# Altium footprint library PCB - CONNECTOR - HEADER - MALE 1X22.PcbLib: 1 footprints
Each footprint in its own frame and in the unit in brackets; x right, y up, seen from the top. Pads: shape width x height; smd on the part's side, far side on the other; paste and mask are expansions set on the pad; w line width, h text height; cw(c..) or ccw(c..) is an arc to the next point about the centre after c.
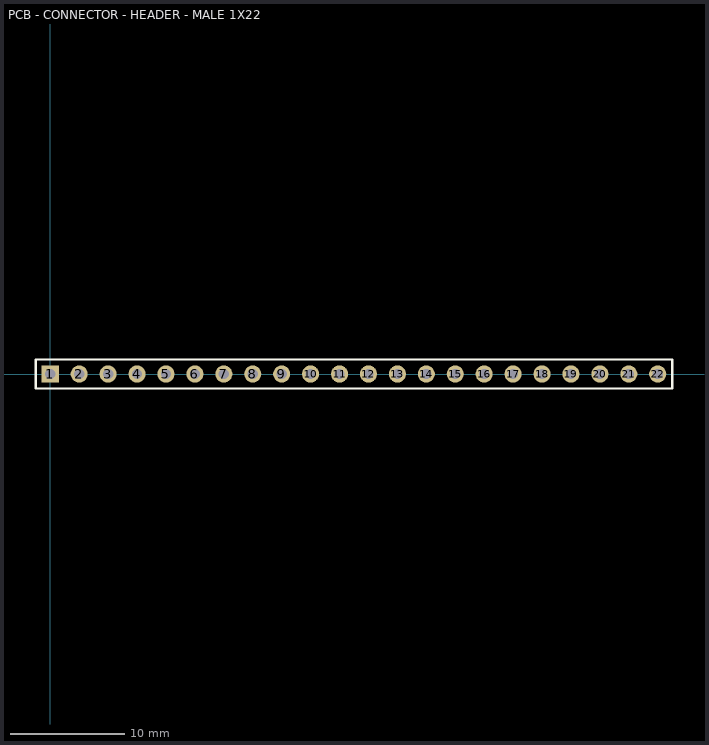
[diagram p0: the footprint, top view; thin cyan lines are the x and y axes]

## PCB - CONNECTOR - HEADER - MALE 1X22 [mm] "Connector; Header; 22 Position"
pads (22):
  rect 1.5x1.5 hole 0.9: 1(0,0)
  round 1.5 hole 0.9: 2(2.54,0) 3(5.08,0) 4(7.62,0) 5(10.16,0) 6(12.7,0) 7(15.24,0) 8(17.78,0) 9(20.32,0) 10(22.86,0) 11(25.4,0) 12(27.94,0) 13(30.48,0) 14(33.02,0) 15(35.56,0) 16(38.1,0) 17(40.64,0) 18(43.18,0) 19(45.72,0) 20(48.26,0) 21(50.8,0) 22(53.34,0)
Top Overlay:
  lines w0.2: -1.27,-1.27 54.61,-1.27 54.61,1.27 0.635,1.27 -1.27,1.27 -1.27,-1.27
3D body "BG030-22-A-0600-0300-N-G.stp": height 8.55, standoff -2.99, extent -1.27,-1.23 54.61,1.27